# EAGLE library part LMV324IDR (library IC)
IC OPAMP GP 4 CIRCUIT 14SOIC Manufacturer's datasheet <http://www.ti.com/lit/ds/symlink/lmv324.pdf>
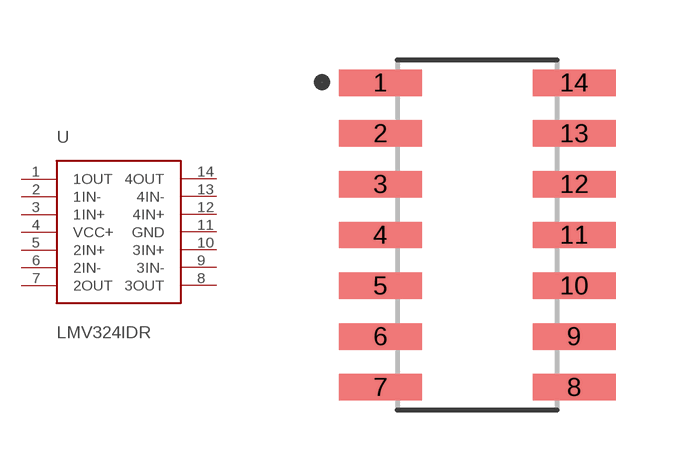
[diagram p24: symbol with the pads of 14-SOIC; footprint 14-SOIC]

Designator prefix U

## LMV324IDR (CREATED_BY: PCBLayout.com; DIGIKEY_PART_NUMBER: 296-9569-1-ND; MANUFACTURER: Texas Instruments; MPN: LMV324IDR; PACKAGE: 14-SOIC)  [14-SOIC]
1  1OUT  out
2  1IN-  in
3  1IN+  in
4  VCC+  pwr
5  2IN+  in
6  2IN-  in
7  2OUT  out
8  3OUT  out
9  3IN-  in
10  3IN+  in
11  GND  pwr
12  4IN+  in
13  4IN-  in
14  4OUT  out

## Footprint 14-SOIC (pad centres in mm)
smd 2.07 x 0.66: 1 -2.425,3.81; 2 -2.425,2.54; 3 -2.425,1.27; 4 -2.425,0; 5 -2.425,-1.27; 6 -2.425,-2.54; 7 -2.425,-3.81; 8 2.425,-3.81; 9 2.425,-2.54; 10 2.425,-1.27; 11 2.425,0; 12 2.425,1.27; 13 2.425,2.54; 14 2.425,3.81